# Altium footprint library PCB - DIODES - LED YELLOW TH 3MM.PcbLib: 1 footprints
Each footprint in its own frame and in the unit in brackets; x right, y up, seen from the top. Pads: shape width x height; smd on the part's side, far side on the other; paste and mask are expansions set on the pad; w line width, h text height; cw(c..) or ccw(c..) is an arc to the next point about the centre after c.
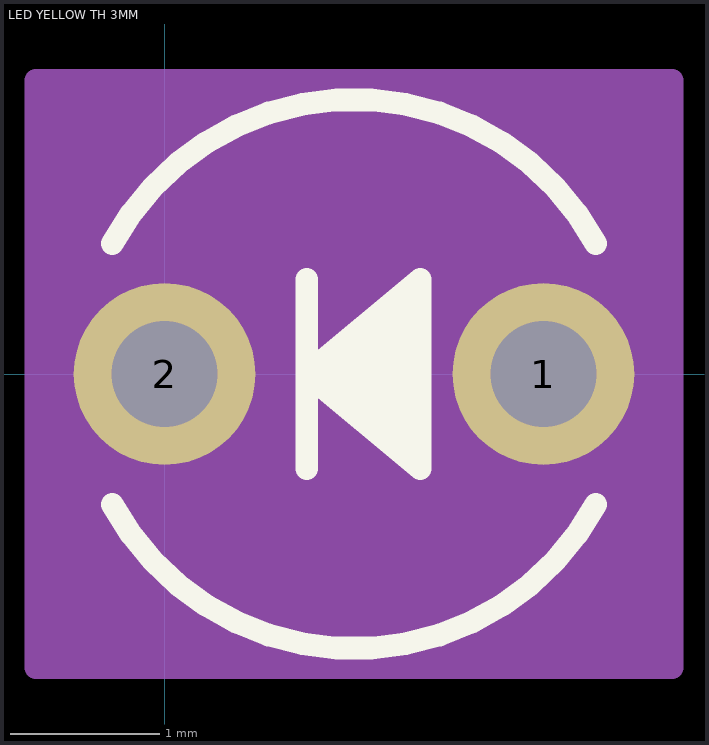
[diagram p0: the footprint, top view; thin cyan lines are the x and y axes]

## LED YELLOW TH 3MM [mil]
pads (2):
  round 48 / inner round 60 / far side round 48 hole 28 paste-24 mask+0: 1(100,0) 2(0,0)
Top Overlay:
  lines w5: 40,0 65,0
  lines w6: -13.8,-34.44 ccw(c50,0) 113.8,-34.44 ; -13.8,34.44 cw(c50,0) 113.8,34.44 ; 37.5,-25 37.5,25 ; 67.5,-20 37.5,0 ; 67.5,-15 37.5,0 ; 67.5,-10 37.5,0 ; 67.5,-5 37.5,0 ; 67.5,5 37.5,0 ; 67.5,10 37.5,0 ; 67.5,15 37.5,0 ; 67.5,20 37.5,0 ; 37.5,0 67.5,25 67.5,-25 37.5,0
Mechanical 13:
  circle w0: c50,0 r67.5
  lines w1: 37.5,-25 37.5,25 ; 67.5,-20 37.5,0 ; 67.5,-15 37.5,0 ; 67.5,-10 37.5,0 ; 67.5,-5 37.5,0 ; 67.5,5 37.5,0 ; 67.5,10 37.5,0 ; 67.5,15 37.5,0 ; 67.5,20 37.5,0 ; 37.5,0 67.5,25 67.5,-25 37.5,0
Mechanical 15:
  region: 134,-77.5 -34,-77.5 -34,77.5 134,77.5
  lines w6: -34,-77.5 -34,77.5 134,77.5 134,-77.5 -34,-77.5
3D body "TH YELLOW 3MM.step": height 261.28, standoff -233.51, extent -24.13,-78.74 110.75,70.87